# Altium footprint library 691 333 500 0xx.PcbLib: 6 footprints
Each footprint in its own frame and in the unit in brackets; x right, y up, seen from the top. Pads: shape width x height; smd on the part's side, far side on the other; paste and mask are expansions set on the pad; w line width, h text height; cw(c..) or ccw(c..) is an arc to the next point about the centre after c.
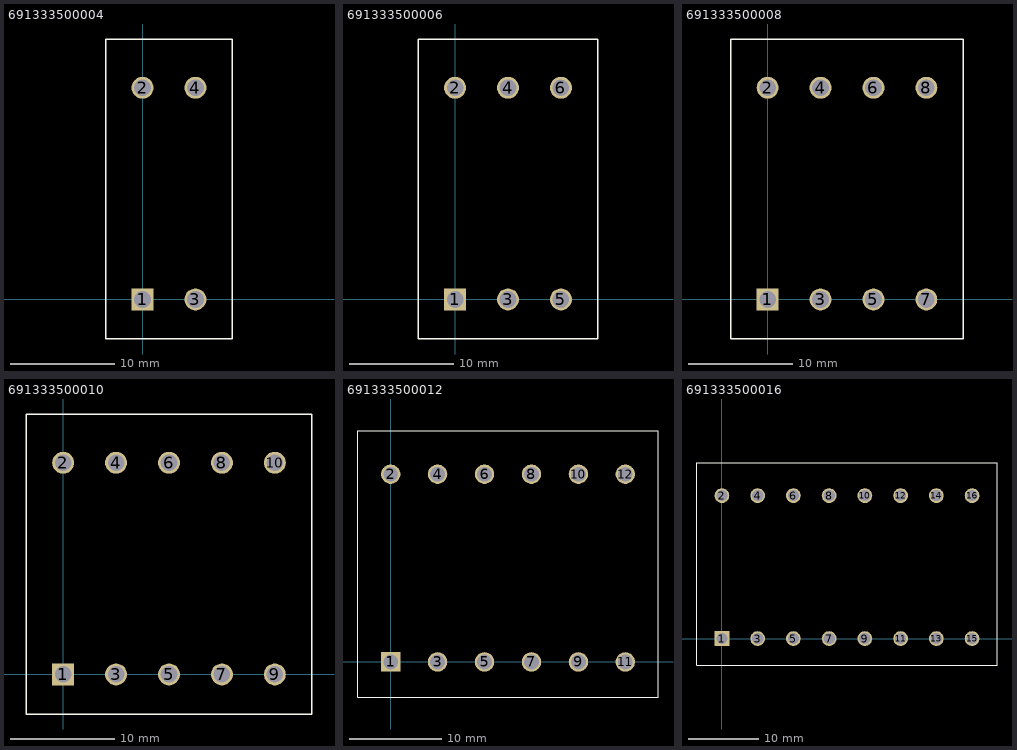
[diagram p0: the footprints below, top view; thin cyan lines are the x and y axes]

## 691333500004 [mm] "5,08mm - PCB - Dual row - Vertical - 04p"
height 22
pads (4):
  rect 2.1x2.1 hole 1.6: 1(0,0)
  round 2.1 hole 1.6: 2(0,20.32) 3(5.08,0) 4(5.08,20.32)
Top Overlay:
  lines w0.127: -3.54,-3.8 -3.54,25 8.62,25 8.62,-3.8 -3.54,-3.8
3D body: height 22.01, standoff -3.89, extent -3.54,-3.8 8.62,25

## 691333500006 [mm] "5,08mm - PCB - Dual row - Vertical - 06p"
height 22
pads (6):
  rect 2.1x2.1 hole 1.6: 1(0,0)
  round 2.1 hole 1.6: 2(0,20.32) 3(5.08,0) 4(5.08,20.32) 5(10.16,0) 6(10.16,20.32)
Top Overlay:
  lines w0.127: 1.54,-3.8 13.7,-3.8 13.7,25 1.54,25 ; 8.62,-3.8 -3.54,-3.8 -3.54,25 8.62,25
3D body: height 22.01, standoff -3.89, extent -3.54,-3.8 13.7,25

## 691333500008 [mm] "5,08mm - PCB - Dual row - Vertical - 08p"
height 22
pads (8):
  rect 2.1x2.1 hole 1.6: 1(0,0)
  round 2.1 hole 1.6: 2(0,20.32) 3(5.08,0) 4(5.08,20.32) 5(10.16,0) 6(10.16,20.32) 7(15.24,0) 8(15.24,20.32)
Top Overlay:
  lines w0.127: 6.62,-3.8 18.78,-3.8 18.78,25 6.62,25 ; 8.62,-3.8 -3.54,-3.8 -3.54,25 8.62,25
3D body: height 22.01, standoff -3.89, extent -3.54,-3.8 18.78,25

## 691333500010 [mm] "5,08mm - PCB - Dual row - Vertical - 10p"
height 22
pads (10):
  rect 2.1x2.1 hole 1.6: 1(0,0)
  round 2.1 hole 1.6: 2(0,20.32) 3(5.08,0) 4(5.08,20.32) 5(10.16,0) 6(10.16,20.32) 7(15.24,0) 8(15.24,20.32) 9(20.32,0) 10(20.32,20.32)
Top Overlay:
  lines w0.127: 6.62,-3.8 18.78,-3.8 ; 6.62,25 18.78,25 ; 8.62,-3.8 -3.54,-3.8 -3.54,25 8.62,25 ; 11.7,-3.8 23.86,-3.8 23.86,25 11.7,25
3D body: height 22.01, standoff -3.89, extent -3.54,-3.8 23.86,25

## 691333500012 [mm] "5,08mm - PCB - Dual row - Vertical - 12p"
height 22
pads (12):
  rect 2.1x2.1 hole 1.6: 1(0,0)
  round 2.1 hole 1.6: 2(0,20.32) 3(5.08,0) 4(5.08,20.32) 5(10.16,0) 6(10.16,20.32) 7(15.24,0) 8(15.24,20.32) 9(20.32,0) 10(20.32,20.32) 11(25.4,0) 12(25.4,20.32)
Top Overlay:
  lines w0.127: 6.62,-3.8 18.78,-3.8 ; 6.62,25 18.78,25 ; 8.62,-3.8 -3.54,-3.8 -3.54,25 8.62,25 ; 16.78,-3.8 28.94,-3.8 28.94,25 16.78,25
3D body: height 22.01, standoff -3.89, extent -3.54,-3.8 28.94,25

## 691333500016 [mm] "5,08mm - PCB - Dual row - Vertical - 16p"
height 22
pads (16):
  rect 2.1x2.1 hole 1.6: 1(0,0)
  round 2.1 hole 1.6: 2(0,20.32) 3(5.08,0) 4(5.08,20.32) 5(10.16,0) 6(10.16,20.32) 7(15.24,0) 8(15.24,20.32) 9(20.32,0) 10(20.32,20.32) 11(25.4,0) 12(25.4,20.32) 13(30.48,0) 14(30.48,20.32) 15(35.56,0) 16(35.56,20.32)
Top Overlay:
  lines w0.127: 6.62,-3.8 18.78,-3.8 ; 6.62,25 18.78,25 ; 8.62,-3.8 -3.54,-3.8 -3.54,25 8.62,25 ; 16.78,-3.8 28.94,-3.8 ; 16.78,25 28.94,25 ; 26.94,-3.8 39.1,-3.8 39.1,25 26.94,25
3D body: height 22.01, standoff -3.89, extent -3.54,-3.8 39.1,25